# Altium footprint library FT232RL.PcbLib: 1 footprints
Each footprint in its own frame and in the unit in brackets; x right, y up, seen from the top. Pads: shape width x height; smd on the part's side, far side on the other; paste and mask are expansions set on the pad; w line width, h text height; cw(c..) or ccw(c..) is an arc to the next point about the centre after c.
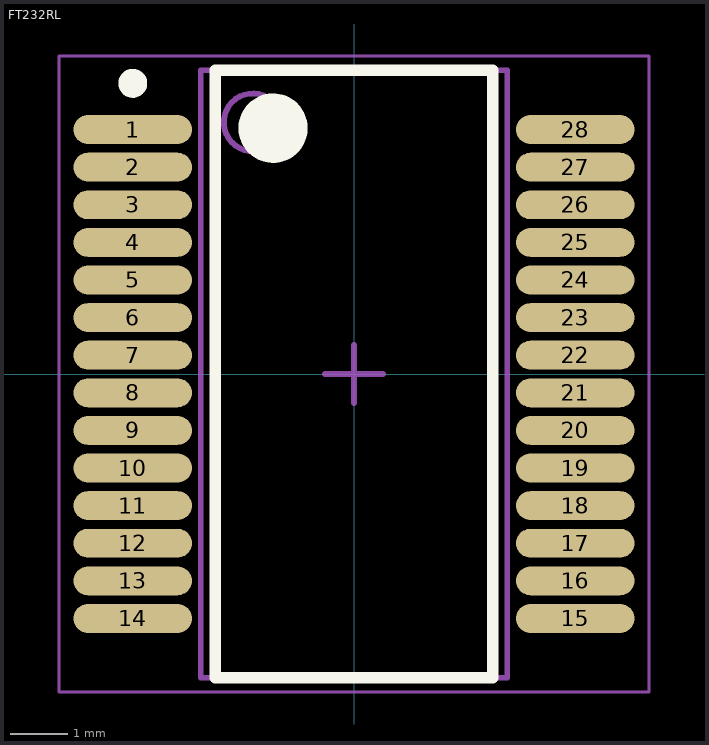
[diagram p0: the footprint, top view; thin cyan lines are the x and y axes]

## FT232RL [mm] "SOP, 28-Leads, Body 10.35x5.15mm, Pitch 0.65mm, IPC Medium Density"
height 2
pads (28):
  oval 2.05x0.5 smd: 1(-3.825,4.225) 2(-3.825,3.575) 3(-3.825,2.925) 4(-3.825,2.275) 5(-3.825,1.625) 6(-3.825,0.975) 7(-3.825,0.325) 8(-3.825,-0.325) 9(-3.825,-0.975) 10(-3.825,-1.625) 11(-3.825,-2.275) 12(-3.825,-2.925) 13(-3.825,-3.575) 14(-3.825,-4.225) 15(3.825,-4.225) 16(3.825,-3.575) 17(3.825,-2.925) 18(3.825,-2.275) 19(3.825,-1.625) 20(3.825,-0.975) 21(3.825,-0.325) 22(3.825,0.325) 23(3.825,0.975) 24(3.825,1.625) 25(3.825,2.275) 26(3.825,2.925) 27(3.825,3.575) 28(3.825,4.225)
Top Overlay:
  circle w0.6: c-1.4,4.25 r0.3
  circle w0.25: c-3.825,5.025 r0.125
  lines w0.2: -2.4,-5.25 2.4,-5.25 2.4,5.25 -2.4,5.25 -2.4,-5.25
Mechanical 13:
  circle w0.1: c-1.75,4.35 r0.5
  lines w0.1: -2.65,-5.25 2.65,-5.25 2.65,5.25 -2.65,5.25 -2.65,-5.25
Mechanical 15:
  lines w0.05: -5.1,-5.5 5.1,-5.5 5.1,5.5 -5.1,5.5 -5.1,-5.5
  lines w0.1: -0.5,0 0.5,0 ; 0,-0.5 0,0.5
3D body: height 2, standoff 0.05, extent -2.65,-5.25 2.65,5.25